# Altium schematic symbol library WBZ451PE-I.SchLib: 2 symbols
Pins are listed as number, name and electrical type; pins without a type are passive.

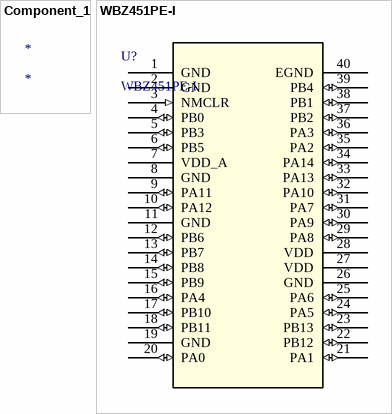
[diagram p0: symbols Component_1 to WBZ451PE-I]

## Component_1
designator *

## WBZ451PE-I
designator U?
No Description Available; Mfr_Name: Microchip; Copyright: Copyright (C) 2024 Ultra Librarian. All rights reserved.; Manufacturer_Part_Number: WBZ451PE-I; RefDes: RefDes; Type: DEV
footprint WBZ451_MCH
pins: 1 GND (power), 2 GND (power), 3 NMCLR (in), 4 PB0 (io), 5 PB3 (io), 6 PB5 (io), 7 VDD_A (power), 8 GND (power), 9 PA11 (io), 10 PA12 (io), 11 GND (power), 12 PB6 (io), 13 PB7 (io), 14 PB8 (io), 15 PB9 (io), 16 PA4 (io), 17 PB10 (io), 18 PB11 (io), 19 GND (power), 20 PA0 (io), 21 PA1 (io), 22 PB12 (io), 23 PB13 (io), 24 PA5 (io), 25 PA6 (io), 26 GND (power), 27 VDD (power), 28 VDD (power), 29 PA8 (io), 30 PA9 (io), 31 PA7 (io), 32 PA10 (io), 33 PA13 (io), 34 PA14 (io), 35 PA2 (io), 36 PA3 (io), 37 PB2 (io), 38 PB1 (io), 39 PB4 (io), 40 EGND (power)